# Altium integrated library Altium_WL-SISW (rev22b).IntLib: 10 symbols
Pins are listed as number, name and electrical type; pins without a type are passive.

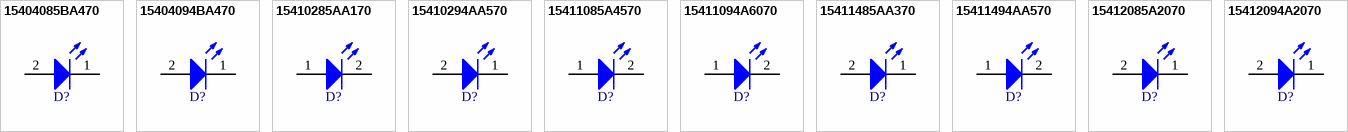
[diagram p0: symbols 15404085BA470 to 15412094A2070]

## 15404085BA470
designator D?, comment Infrared, 1.6V, 140°  (value not drawn)
WL-SISW SMT Infrared Sideview LED Waterclear, size 0402, 1.5mW/sr, Infrared, 1.6V, 140°; Manufacturer Part Number: 15404085BA470; Manufacturer: Wurth Elektronik; Case/Size Code: 0402; Centroid Wavelength: 845nm; Chip Technology: AlGaAs; Forward Voltage Max: 2V; Peak Wavelength: 850nm; Radiant Intensity Min: 0.1mW/sr; ComponentLink1Description: Website Link; ComponentLink1URL: https://www.we-online.com/redexpert/article/15404085BA470?ad; ComponentLink2Description: Datasheet Link; ComponentLink2URL: https://www.we-online.com/redexpert/spec/15404085BA470?ad; Category: Infrared LEDs; Match Code: WL-SISW; Mount: Surface Mount; Operating Temperature Max: 85°C; Operating Temperature Min: -40°C; Packaging: Tape and Reel; Length: 1mm; Width: 0.55mm; Height: 0.3mm; Emitting Color: Infrared; Forward Voltage: 1.6V; Radiant Intensity: 1.5mW/sr; Viewing Angle: 140°
footprint WL-SISW_0402
pins: 1 K, 2 A

## 15404094BA470
designator D?, comment Infrared, 1.4V, 140°  (value not drawn)
WL-SISW SMT Infrared Sideview LED Waterclear, size 0402, 1mW/sr, Infrared, 1.4V, 140°; Manufacturer Part Number: 15404094BA470; Manufacturer: Wurth Elektronik; Case/Size Code: 0402; Centroid Wavelength: 940nm; Chip Technology: AlGaAs; Forward Voltage Max: 2V; Radiant Intensity Min: 0.1mW/sr; ComponentLink1Description: Website Link; ComponentLink1URL: https://www.we-online.com/redexpert/article/15404094BA470?ad; ComponentLink2Description: Datasheet Link; ComponentLink2URL: https://www.we-online.com/redexpert/spec/15404094BA470?ad; Category: Infrared LEDs; Match Code: WL-SISW; Mount: Surface Mount; Operating Temperature Max: 85°C; Operating Temperature Min: -40°C; Packaging: Tape and Reel; Length: 1mm; Width: 0.55mm; Height: 0.3mm; Emitting Color: Infrared; Forward Voltage: 1.4V; Peak Wavelength: 940nm; Radiant Intensity: 1mW/sr; Viewing Angle: 140°
footprint WL-SISW_0402
pins: 1 K, 2 A

## 15410285AA170
designator D?, comment Infrared, 1.4V, 110°  (value not drawn)
WL-SISW SMT Infrared Sideview LED Waterclear, size 1002, 5mW/sr, Infrared, 1.4V, 110°; Manufacturer Part Number: 15410285AA170; Manufacturer: Wurth Elektronik; Case/Size Code: 1002; Centroid Wavelength: 845nm; Chip Technology: AlGaAs; Forward Voltage Max: 1.8V; Peak Wavelength: 850nm; Radiant Intensity Min: 2mW/sr; ComponentLink1Description: Website Link; ComponentLink1URL: https://www.we-online.com/redexpert/article/15410285AA170?ad; ComponentLink2Description: Datasheet Link; ComponentLink2URL: https://www.we-online.com/redexpert/spec/15410285AA170?ad; Category: Infrared LEDs; Match Code: WL-SISW; Mount: Surface Mount; Operating Temperature Max: 85°C; Operating Temperature Min: -40°C; Packaging: Tape and Reel; Length: 2.4mm; Width: 1.39mm; Height: 0.6mm; Emitting Color: Infrared; Forward Voltage: 1.4V; Radiant Intensity: 5mW/sr; Viewing Angle: 110°
footprint WL-SISW_1002
pins: 1 A, 2 K

## 15410294AA570
designator D?, comment Infrared, 1.2V, 150°  (value not drawn)
WL-SISW SMT Infrared Sideview LED Waterclear, size 1002, 1.5mW/sr, Infrared, 1.2V, 150°; Manufacturer Part Number: 15410294AA570; Manufacturer: Wurth Elektronik; Case/Size Code: 1002; Centroid Wavelength: 940nm; Chip Technology: AlGaAs; Forward Voltage Max: 1.8V; Radiant Intensity Min: 1mW/sr; ComponentLink1Description: Website Link; ComponentLink1URL: https://www.we-online.com/redexpert/article/15410294AA570?ad; ComponentLink2Description: Datasheet Link; ComponentLink2URL: https://www.we-online.com/redexpert/spec/15410294AA570?ad; Category: Infrared LEDs; Match Code: WL-SISW; Mount: Surface Mount; Operating Temperature Max: 85°C; Operating Temperature Min: -40°C; Packaging: Tape and Reel; Length: 2.4mm; Width: 1.39mm; Height: 0.6mm; Emitting Color: Infrared; Forward Voltage: 1.2V; Peak Wavelength: 940nm; Radiant Intensity: 1.5mW/sr; Viewing Angle: 150°
footprint WL-SISW_1002
pins: 1 K, 2 A

## 15411085A4570
designator D?, comment Infrared, 1.4V, 45°  (value not drawn)
WL-SISW SMT Infrared Sideview LED Waterclear, size 1106, 11mW/sr, Infrared, 1.4V, 45°; Manufacturer Part Number: 15411085A4570; Manufacturer: Wurth Elektronik; Case/Size Code: 1106; Centroid Wavelength: 845nm; Chip Technology: AlGaAs; Forward Voltage Max: 1.8V; Peak Wavelength: 850nm; Radiant Intensity Min: 6mW/sr; ComponentLink1Description: Website Link; ComponentLink1URL: https://www.we-online.com/redexpert/article/15411085A4570?ad; ComponentLink2Description: Datasheet Link; ComponentLink2URL: https://www.we-online.com/redexpert/spec/15411085A4570?ad; Category: Infrared LEDs; Match Code: WL-SISW; Mount: Surface Mount; Operating Temperature Max: 85°C; Operating Temperature Min: -40°C; Packaging: Tape and Reel; Length: 3mm; Width: 2.34mm; Height: 1.6mm; Emitting Color: Infrared; Forward Voltage: 1.4V; Radiant Intensity: 11mW/sr; Viewing Angle: 45°
footprint WL-SISW_1106
pins: 1 A, 2 K

## 15411094A6070
designator D?, comment Infrared, 1.2V, 60°  (value not drawn)
WL-SISW SMT Infrared Sideview LED Waterclear, size 1106, 6mW/sr, Infrared, 1.2V, 60°; Manufacturer Part Number: 15411094A6070; Manufacturer: Wurth Elektronik; Case/Size Code: 1106; Centroid Wavelength: 940nm; Chip Technology: AlGaAs; Forward Voltage Max: 1.8V; Radiant Intensity Min: 4mW/sr; ComponentLink1Description: Website Link; ComponentLink1URL: https://www.we-online.com/redexpert/article/15411094A6070?ad; ComponentLink2Description: Datasheet Link; ComponentLink2URL: https://www.we-online.com/redexpert/spec/15411094A6070?ad; Category: Infrared LEDs; Match Code: WL-SISW; Mount: Surface Mount; Operating Temperature Max: 85°C; Operating Temperature Min: -40°C; Packaging: Tape and Reel; Length: 3mm; Width: 2.34mm; Height: 1.6mm; Emitting Color: Infrared; Forward Voltage: 1.2V; Peak Wavelength: 940nm; Radiant Intensity: 6mW/sr; Viewing Angle: 60°
footprint WL-SISW_1106
pins: 1 A, 2 K

## 15411485AA370
designator D?, comment Infrared, 1.4V, 130°  (value not drawn)
WL-SISW SMT Infrared Sideview LED Waterclear, size 1104, 2mW/sr, Infrared, 1.4V, 130°; Manufacturer Part Number: 15411485AA370; Manufacturer: Wurth Elektronik; Case/Size Code: 1104; Centroid Wavelength: 845nm; Chip Technology: AlGaAs; Forward Voltage Max: 2V; Peak Wavelength: 850nm; Radiant Intensity Min: 1mW/sr; ComponentLink1Description: Website Link; ComponentLink1URL: https://www.we-online.com/redexpert/article/15411485AA370?ad; ComponentLink2Description: Datasheet Link; ComponentLink2URL: https://www.we-online.com/redexpert/spec/15411485AA370?ad; Category: Infrared LEDs; Match Code: WL-SISW; Mount: Surface Mount; Operating Temperature Max: 85°C; Operating Temperature Min: -40°C; Packaging: Tape and Reel; Length: 3mm; Width: 2mm; Height: 1mm; Emitting Color: Infrared; Forward Voltage: 1.4V; Radiant Intensity: 2mW/sr; Viewing Angle: 130°
footprint WL-SISW_1104
pins: 1 K, 2 A

## 15411494AA570
designator D?, comment Infrared, 1.2V, 150°  (value not drawn)
WL-SISW SMT Infrared Sideview LED Waterclear, size 1104, 1mW/sr, Infrared, 1.2V, 150°; Manufacturer Part Number: 15411494AA570; Manufacturer: Wurth Elektronik; Case/Size Code: 1104; Centroid Wavelength: 940nm; Chip Technology: AlGaAs; Forward Voltage Max: 1.7V; Radiant Intensity Min: 0.5mW/sr; ComponentLink1Description: Website Link; ComponentLink1URL: https://www.we-online.com/redexpert/article/15411494AA570?ad; ComponentLink2Description: Datasheet Link; ComponentLink2URL: https://www.we-online.com/redexpert/spec/15411494AA570?ad; Category: Infrared LEDs; Match Code: WL-SISW; Mount: Surface Mount; Operating Temperature Max: 85°C; Operating Temperature Min: -40°C; Packaging: Tape and Reel; Length: 3mm; Width: 2mm; Height: 1mm; Emitting Color: Infrared; Forward Voltage: 1.2V; Peak Wavelength: 940nm; Radiant Intensity: 1mW/sr; Viewing Angle: 150°
footprint WL-SISW_1104
pins: 1 A, 2 K

## 15412085A2070
designator D?, comment Infrared, 1.4V, 20°  (value not drawn)
WL-SISW SMT Infrared Sideview LED Waterclear, size 1206, 12mW/sr, Infrared, 1.4V, 20°; Manufacturer Part Number: 15412085A2070; Manufacturer: Wurth Elektronik; Case/Size Code: 1206; Centroid Wavelength: 845nm; Chip Technology: AlGaAs; Forward Voltage Max: 2V; Peak Wavelength: 850nm; Radiant Intensity Min: 7mW/sr; ComponentLink1Description: Website Link; ComponentLink1URL: https://www.we-online.com/redexpert/article/15412085A2070?ad; ComponentLink2Description: Datasheet Link; ComponentLink2URL: https://www.we-online.com/redexpert/spec/15412085A2070?ad; Category: Infrared LEDs; Match Code: WL-SISW; Mount: Surface Mount; Operating Temperature Max: 85°C; Operating Temperature Min: -40°C; Packaging: Tape and Reel; Length: 3.2mm; Width: 2.55mm; Height: 1.6mm; Emitting Color: Infrared; Forward Voltage: 1.4V; Radiant Intensity: 12mW/sr; Viewing Angle: 20°
footprint WL-SISW_1206
pins: 1 K, 2 A

## 15412094A2070
designator D?, comment Infrared, 1.2V, 20°  (value not drawn)
WL-SISW SMT Infrared Sideview LED Waterclear, size 1206, 6mW/sr, Infrared, 1.2V, 20°; Manufacturer Part Number: 15412094A2070; Manufacturer: Wurth Elektronik; Case/Size Code: 1206; Centroid Wavelength: 940nm; Chip Technology: AlGaAs; Forward Voltage Max: 2V; Radiant Intensity Min: 3mW/sr; ComponentLink1Description: Website Link; ComponentLink1URL: https://www.we-online.com/redexpert/article/15412094A2070?ad; ComponentLink2Description: Datasheet Link; ComponentLink2URL: https://www.we-online.com/redexpert/spec/15412094A2070?ad; Category: Infrared LEDs; Match Code: WL-SISW; Mount: Surface Mount; Operating Temperature Max: 85°C; Operating Temperature Min: -40°C; Packaging: Tape and Reel; Length: 3.2mm; Width: 2.55mm; Height: 1.6mm; Emitting Color: Infrared; Forward Voltage: 1.2V; Peak Wavelength: 940nm; Radiant Intensity: 6mW/sr; Viewing Angle: 20°
footprint WL-SISW_1206
pins: 1 K, 2 A